# Altium schematic symbol library IC_VREF.SchLib: 1 symbol
Pins are listed as number, name and electrical type; pins without a type are passive.

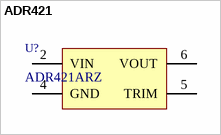
[diagram p0: symbol ADR421]

## ADR421
designator U?, comment ADR421ARZ
Ultraprecision, Low Noise Voltage References; Manufacturer: Analog Devices; Name: ADR421ARZ; HelpURL: https://www.analog.com/media/en/technical-documentation/data-sheets/ADR420_421_423_425.pdf; Supplier: https://www.electronshik.ru/item/AD/ADR421ARZ-REEL7
footprint SOIC-8
pins: 2 VIN, 4 GND, 5 TRIM, 6 VOUT (power)